# Altium footprint library MJ63022B.PcbLib: 1 footprints
Each footprint in its own frame and in the unit in brackets; x right, y up, seen from the top. Pads: shape width x height; smd on the part's side, far side on the other; paste and mask are expansions set on the pad; w line width, h text height; cw(c..) or ccw(c..) is an arc to the next point about the centre after c.
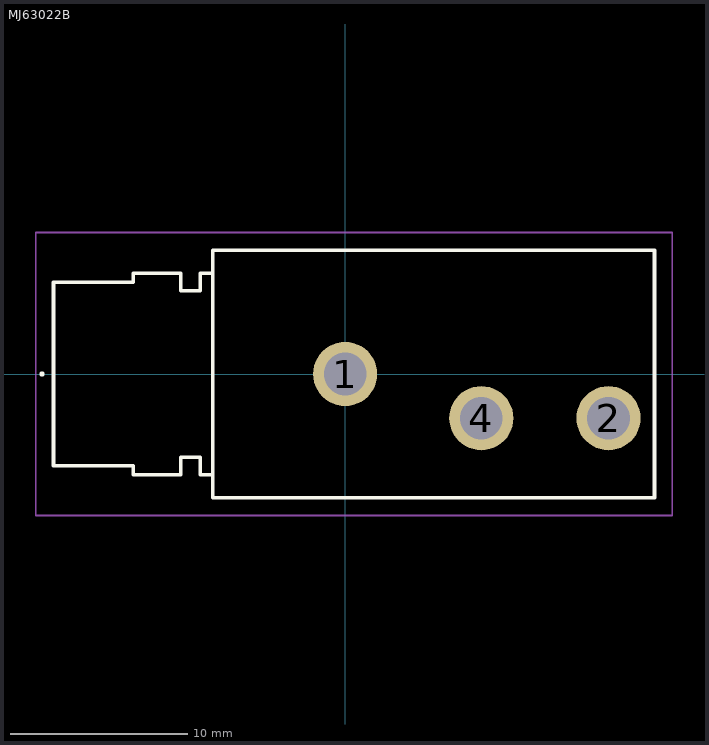
[diagram p0: the footprint, top view; thin cyan lines are the x and y axes]

## MJ63022B [mm]
pads (3):
  round 3.63 hole 2.42: 1(0,0) 2(14.9,-2.5) 4(7.7,-2.5)
Top Overlay:
  lines w0.2: -7.5,-5.7 -8.2,-5.7 -8.2,-4.7 -9.3,-4.7 -9.3,-5.7 -12,-5.7 -12,-5.2 -16.5,-5.2 -16.5,5.2 -12,5.2 -12,5.7 -9.3,5.7 -9.3,4.7 -8.2,4.7 -8.2,5.7 -7.5,5.7 ; -17.2,0 cw(c-17.15,0) -17.1,0 ; -17.2,0 -17.2,0 ; -17.2,0 ccw(c-17.15,0) -17.1,0 ; -17.2,0 cw(c-17.15,0) -17.1,0 ; -17.1,0 -17.1,0 ; -17.1,0 -17.1,0 ; -7.5,-7 17.5,-7 17.5,7 -7.5,7 -7.5,-7
Mechanical 15:
  lines w0.1: -7.5,-5.7 -8.2,-5.7 -8.2,-4.7 -9.3,-4.7 -9.3,-5.7 -12,-5.7 -12,-5.2 ; -7.5,5.7 -8.2,5.7 -8.2,4.7 -9.3,4.7 -9.3,5.7 -12,5.7 -12,5.2 -16.5,5.2 -16.5,-5.2 -12,-5.2 ; -12,-5.2 -12,-5.2 ; -7.5,-7 17.5,-7 17.5,7 -7.5,7 -7.5,-7
Mechanical 20:
  lines w0.1: -17.5,-8 18.5,-8 18.5,8 -17.5,8 -17.5,-8